# Altium schematic symbol library SI2312BDS-T1-E3.SchLib: 1 symbol
Pins are listed as number, name and electrical type; pins without a type are passive.

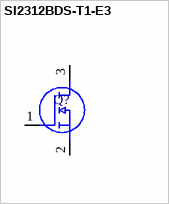
[diagram p0: symbol SI2312BDS-T1-E3]

## SI2312BDS-T1-E3
designator Q?
N-Channel 20 V (D-S) MOSFET; Manufacturer_Name: Vishay; Geometry.Height: 1.12mm; Mouser Part Number: 781-SI2312BDS-E3; Mouser Price/Stock: https://www.mouser.co.uk/ProductDetail/Vishay-Semiconductors/SI2312BDS-T1-E3?qs=jcx%252B0HVgj2b3YhM4OoQ%252BrQ%3D%3D; Manufacturer_Part_Number: SI2312BDS-T1-E3; Datasheet Link: http://www.vishay.com/docs/73235/si2312bds.pdf
footprint SOT95P237X112-3N
pins: 1 G, 2 S, 3 D